# Altium footprint library WR-TBL_Pluggable Connector_5.00mm.PcbLib: 148 footprints (part 2 of 10)
Each footprint in its own frame and in the unit in brackets; x right, y up, seen from the top. Pads: shape width x height; smd on the part's side, far side on the other; paste and mask are expansions set on the pad; w line width, h text height; cw(c..) or ccw(c..) is an arc to the next point about the centre after c.
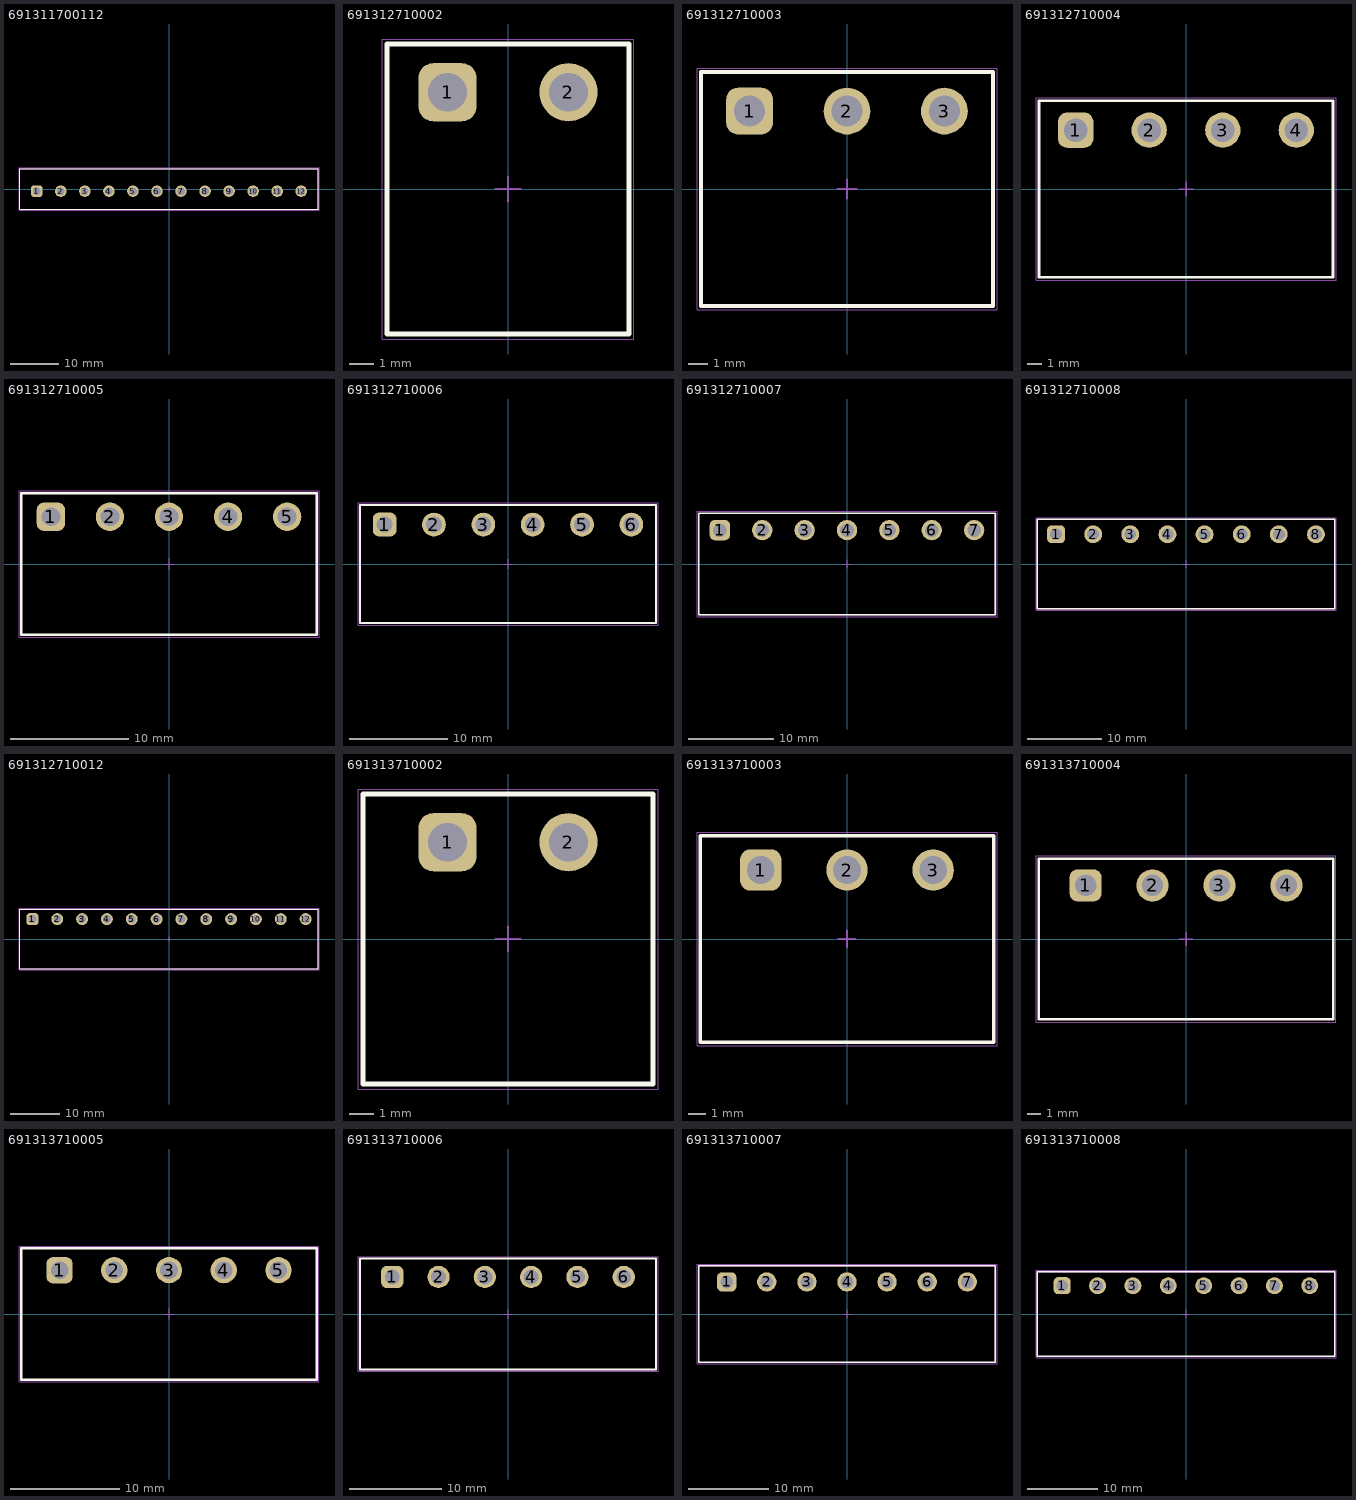
[diagram p1: the footprints below, top view; thin cyan lines are the x and y axes]

## 691311700112 [mm] "5.00mm - PCB Vertical Closed - 12p"
height 12
pads (12):
  rrect50% 2.4x2.4 hole 1.6: 1(-27.5,-0.45)
  round 2.4 hole 1.6: 2(-22.5,-0.45) 3(-17.5,-0.45) 4(-12.5,-0.45) 5(-7.5,-0.45) 6(-2.5,-0.45) 7(2.5,-0.45) 8(7.5,-0.45) 9(12.5,-0.45) 10(17.5,-0.45) 11(22.5,-0.45) 12(27.5,-0.45)
Top Overlay:
  lines w0.2: -31,-4.25 -31,4.25 31,4.25 31,-4.25 -31,-4.25
Top Assembly:
  lines w0.1: -31,-4.25 31,-4.25 31,4.25 -31,4.25 -31,-4.25
Top Designator:
  text ".Designator" at -3.647,-0.357 h1
Top 3D Body:
  lines w0.1: -31,-4.25 -31,4.25 31,4.25 31,-4.25 -31,-4.25
Top Courtyard:
  lines w0.05: -31.2,-4.45 31.2,-4.45 31.2,4.45 -31.2,4.45 -31.2,-4.45
Top Component Center:
  lines w0.1: -0.5,0 0.5,0 ; 0,-0.5 0,0.5
3D body "691311700112.stp": height 12.1, standoff -3.9, extent -31,-4.25 31,4.25

## 691312710002 [mm] "5.00mm - Open Horizhontal PCB Header - 02p"
height 8.5
pads (2):
  rrect50% 2.4x2.4 hole 1.6: 1(-2.5,4)
  round 2.4 hole 1.6: 2(2.5,4)
Top Overlay:
  lines w0.2: -5,-6 -5,6 5,6 5,-6 -5,-6
Top Assembly:
  lines w0.1: -5,-6 5,-6 5,6 -5,6 -5,-6
Top Designator:
  text ".Designator" at -3.647,-0.357 h1
Top 3D Body:
  lines w0.1: -5,-6 -5,6 5,6 5,-6 -5,-6
Top Courtyard:
  lines w0.05: -5.2,-6.2 -5.2,6.2 5.2,6.2 5.2,-6.2 -5.2,-6.2
Top Component Center:
  lines w0.1: -0.5,0 0.5,0 ; 0,-0.5 0,0.5
3D body "691312710002.stp": height 8.55, standoff -3.45, extent -5,-6 5,6

## 691312710003 [mm] "5.00mm - Open Horizhontal PCB Header - 03p"
height 8.5
pads (3):
  rrect50% 2.4x2.4 hole 1.6: 1(-5,4)
  round 2.4 hole 1.6: 2(0,4) 3(5,4)
Top Overlay:
  lines w0.2: -7.5,-6 -7.5,6 7.5,6 7.5,-6 -7.5,-6
Top Assembly:
  lines w0.1: -7.5,-6 7.5,-6 7.5,6 -7.5,6 -7.5,-6
Top Designator:
  text ".Designator" at -3.647,-0.357 h1
Top 3D Body:
  lines w0.1: -7.5,-6 -7.5,6 7.5,6 7.5,-6 -7.5,-6
Top Courtyard:
  lines w0.05: -7.7,-6.2 -7.7,6.2 7.7,6.2 7.7,-6.2 -7.7,-6.2
Top Component Center:
  lines w0.1: -0.5,0 0.5,0 ; 0,-0.5 0,0.5
3D body "691312710003.stp": height 8.55, standoff -3.45, extent -7.5,-6 7.5,6

## 691312710004 [mm] "5.00mm - Open Horizhontal PCB Header - 04p"
height 8.5
pads (4):
  rrect50% 2.4x2.4 hole 1.6: 1(-7.5,4)
  round 2.4 hole 1.6: 2(-2.5,4) 3(2.5,4) 4(7.5,4)
Top Overlay:
  lines w0.2: -10,-6 10,-6 10,6 -10,6 -10,-6
Top Assembly:
  lines w0.1: -10,-6 -10,6 10,6 10,-6 -10,-6
Top Designator:
  text ".Designator" at -3.647,-0.357 h1
Top 3D Body:
  lines w0.1: -10,-6 10,-6 10,6 -10,6 -10,-6
Top Courtyard:
  lines w0.05: -10.2,-6.2 10.2,-6.2 10.2,6.2 -10.2,6.2 -10.2,-6.2
Top Component Center:
  lines w0.1: -0.5,0 0.5,0 ; 0,-0.5 0,0.5
3D body "691312710004.stp": height 8.55, standoff -3.45, extent -10,-6 10,6

## 691312710005 [mm] "5.00mm - Open Horizhontal PCB Header - 05p"
height 8.5
pads (5):
  rrect50% 2.4x2.4 hole 1.6: 1(-10,4)
  round 2.4 hole 1.6: 2(-5,4) 3(0,4) 4(5,4) 5(10,4)
Top Overlay:
  lines w0.2: -12.5,-6 -12.5,6 12.5,6 12.5,-6 -12.5,-6
Top Assembly:
  lines w0.1: -12.5,-6 12.5,-6 12.5,6 -12.5,6 -12.5,-6
Top Designator:
  text ".Designator" at -3.647,-0.357 h1
Top 3D Body:
  lines w0.1: -12.5,-6 -12.5,6 12.5,6 12.5,-6 -12.5,-6
Top Courtyard:
  lines w0.05: -12.7,-6.2 -12.7,6.2 12.7,6.2 12.7,-6.2 -12.7,-6.2
Top Component Center:
  lines w0.1: -0.5,0 0.5,0 ; 0,-0.5 0,0.5
3D body "691312710005.stp": height 8.55, standoff -3.45, extent -12.5,-6 12.5,6

## 691312710006 [mm] "5.00mm - Open Horizhontal PCB Header - 06p"
height 8.5
pads (6):
  rrect50% 2.4x2.4 hole 1.6: 1(-12.5,4)
  round 2.4 hole 1.6: 2(-7.5,4) 3(-2.5,4) 4(2.5,4) 5(7.5,4) 6(12.5,4)
Top Overlay:
  lines w0.2: -15,-6 15,-6 15,6 -15,6 -15,-6
Top Assembly:
  lines w0.1: -15,-6 -15,6 15,6 15,-6 -15,-6
Top Designator:
  text ".Designator" at -3.647,-0.357 h1
Top 3D Body:
  lines w0.1: -15,-6 15,-6 15,6 -15,6 -15,-6
Top Courtyard:
  lines w0.05: -15.2,-6.2 15.2,-6.2 15.2,6.2 -15.2,6.2 -15.2,-6.2
Top Component Center:
  lines w0.1: -0.5,0 0.5,0 ; 0,-0.5 0,0.5
3D body "691312710006.stp": height 8.55, standoff -3.45, extent -15,-6 15,6

## 691312710007 [mm] "5.00mm - Open Horizhontal PCB Header - 07p"
height 8.5
pads (7):
  rrect50% 2.4x2.4 hole 1.6: 1(-15,4)
  round 2.4 hole 1.6: 2(-10,4) 3(-5,4) 4(0,4) 5(5,4) 6(10,4) 7(15,4)
Top Overlay:
  lines w0.2: -17.5,-6 17.5,-6 17.5,6 -17.5,6 -17.5,-6
Top Assembly:
  lines w0.1: -17.5,-6 -17.5,6 17.5,6 17.5,-6 -17.5,-6
Top Designator:
  text ".Designator" at -3.647,-0.357 h1
Top 3D Body:
  lines w0.1: -17.5,-6 17.5,-6 17.5,6 -17.5,6 -17.5,-6
Top Courtyard:
  lines w0.05: -17.7,-6.2 17.7,-6.2 17.7,6.2 -17.7,6.2 -17.7,-6.2
Top Component Center:
  lines w0.1: -0.5,0 0.5,0 ; 0,-0.5 0,0.5
3D body "691312710007.stp": height 8.55, standoff -3.45, extent -17.5,-6 17.5,6

## 691312710008 [mm] "5.00mm - Open Horizhontal PCB Header - 08p"
height 8.5
pads (8):
  rrect50% 2.4x2.4 hole 1.6: 1(-17.5,4)
  round 2.4 hole 1.6: 2(-12.5,4) 3(-7.5,4) 4(-2.5,4) 5(2.5,4) 6(7.5,4) 7(12.5,4) 8(17.5,4)
Top Overlay:
  lines w0.2: -20,-6 -20,6 20,6 20,-6 -20,-6
Top Assembly:
  lines w0.1: -20,-6 20,-6 20,6 -20,6 -20,-6
Top Designator:
  text ".Designator" at -3.647,-0.357 h1
Top 3D Body:
  lines w0.1: -20,-6 -20,6 20,6 20,-6 -20,-6
Top Courtyard:
  lines w0.05: -20.2,-6.2 -20.2,6.2 20.2,6.2 20.2,-6.2 -20.2,-6.2
Top Component Center:
  lines w0.1: -0.5,0 0.5,0 ; 0,-0.5 0,0.5
3D body "691312710008.stp": height 8.55, standoff -3.45, extent -20,-6 20,6

## 691312710012 [mm] "5.00mm - Open Horizhontal PCB Header - 12p"
height 8.5
pads (12):
  rrect50% 2.4x2.4 hole 1.6: 1(-27.5,4)
  round 2.4 hole 1.6: 2(-22.5,4) 3(-17.5,4) 4(-12.5,4) 5(-7.5,4) 6(-2.5,4) 7(2.5,4) 8(7.5,4) 9(12.5,4) 10(17.5,4) 11(22.5,4) 12(27.5,4)
Top Overlay:
  lines w0.2: -30,-6 -30,6 30,6 30,-6 -30,-6
Top Assembly:
  lines w0.1: -30,-6 30,-6 30,6 -30,6 -30,-6
Top Designator:
  text ".Designator" at -3.647,-0.357 h1
Top 3D Body:
  lines w0.1: -30,-6 -30,6 30,6 30,-6 -30,-6
Top Courtyard:
  lines w0.05: -30.2,-6.2 -30.2,6.2 30.2,6.2 30.2,-6.2 -30.2,-6.2
Top Component Center:
  lines w0.1: -0.5,0 0.5,0 ; 0,-0.5 0,0.5
3D body "691312710012.stp": height 8.55, standoff -3.45, extent -30,-6 30,6

## 691313710002 [mm] "5.00mm - Closed Horizhontal PCB Header - -02p"
height 8.5
pads (2):
  rrect50% 2.4x2.4 hole 1.6: 1(-2.5,4)
  round 2.4 hole 1.6: 2(2.5,4)
Top Overlay:
  lines w0.2: -6,-6 6,-6 6,6 -6,6 -6,-6
Top Assembly:
  lines w0.1: -6,-6 -6,6 6,6 6,-6 -6,-6
Top Designator:
  text ".Designator" at -3.647,-0.357 h1
Top 3D Body:
  lines w0.1: -6,-6 6,-6 6,6 -6,6 -6,-6
Top Courtyard:
  lines w0.05: -6.2,-6.2 -6.2,6.2 6.2,6.2 6.2,-6.2 -6.2,-6.2
Top Component Center:
  lines w0.1: -0.5,0 0.5,0 ; 0,-0.5 0,0.5
3D body "691313710002.stp": height 8.55, standoff -3.45, extent -6,-6 6,6

## 691313710003 [mm] "5.00mm - Closed Horizhontal PCB Header - -03p"
height 8.5
pads (3):
  rrect50% 2.4x2.4 hole 1.6: 1(-5,4)
  round 2.4 hole 1.6: 2(0,4) 3(5,4)
Top Overlay:
  lines w0.2: -8.5,-6 -8.5,6 8.5,6 8.5,-6 -8.5,-6
Top Assembly:
  lines w0.1: -8.5,-6 8.5,-6 8.5,6 -8.5,6 -8.5,-6
Top Designator:
  text ".Designator" at -3.647,-0.357 h1
Top 3D Body:
  lines w0.1: -8.5,-6 -8.5,6 8.5,6 8.5,-6 -8.5,-6
Top Courtyard:
  lines w0.05: -8.7,-6.2 8.7,-6.2 8.7,6.2 -8.7,6.2 -8.7,-6.2
Top Component Center:
  lines w0.1: -0.5,0 0.5,0 ; 0,-0.5 0,0.5
3D body "691313710003.stp": height 8.55, standoff -3.45, extent -8.5,-6 8.5,6

## 691313710004 [mm] "5.00mm - Closed Horizhontal PCB Header - -04p"
height 8.5
pads (4):
  rrect50% 2.4x2.4 hole 1.6: 1(-7.5,4)
  round 2.4 hole 1.6: 2(-2.5,4) 3(2.5,4) 4(7.5,4)
Top Overlay:
  lines w0.2: -11,-6 11,-6 11,6 -11,6 -11,-6
Top Assembly:
  lines w0.1: -11,-6 -11,6 11,6 11,-6 -11,-6
Top Designator:
  text ".Designator" at -3.647,-0.357 h1
Top 3D Body:
  lines w0.1: -11,-6 11,-6 11,6 -11,6 -11,-6
Top Courtyard:
  lines w0.05: -11.2,-6.2 -11.2,6.2 11.2,6.2 11.2,-6.2 -11.2,-6.2
Top Component Center:
  lines w0.1: -0.5,0 0.5,0 ; 0,-0.5 0,0.5
3D body "691313710004.stp": height 8.55, standoff -3.45, extent -11,-6 11,6

## 691313710005 [mm] "5.00mm - Closed Horizhontal PCB Header - -05p"
height 8.5
pads (5):
  rrect50% 2.4x2.4 hole 1.6: 1(-10,4)
  round 2.4 hole 1.6: 2(-5,4) 3(0,4) 4(5,4) 5(10,4)
Top Overlay:
  lines w0.2: -13.5,-6 -13.5,6 13.5,6 13.5,-6 -13.5,-6
Top Assembly:
  lines w0.1: -13.5,-6 13.5,-6 13.5,6 -13.5,6 -13.5,-6
Top Designator:
  text ".Designator" at -3.647,-0.357 h1
Top 3D Body:
  lines w0.1: -13.5,-6 -13.5,6 13.5,6 13.5,-6 -13.5,-6
Top Courtyard:
  lines w0.05: -13.7,-6.2 13.7,-6.2 13.7,6.2 -13.7,6.2 -13.7,-6.2
Top Component Center:
  lines w0.1: -0.5,0 0.5,0 ; 0,-0.5 0,0.5
3D body "691313710005.stp": height 8.55, standoff -3.45, extent -13.5,-6 13.5,6

## 691313710006 [mm] "5.00mm - Closed Horizhontal PCB Header - -06p"
height 8.5
pads (6):
  rrect50% 2.4x2.4 hole 1.6: 1(-12.5,4)
  round 2.4 hole 1.6: 2(-7.5,4) 3(-2.5,4) 4(2.5,4) 5(7.5,4) 6(12.5,4)
Top Overlay:
  lines w0.2: -16,-6 16,-6 16,6 -16,6 -16,-6
Top Assembly:
  lines w0.1: -16,-6 -16,6 16,6 16,-6 -16,-6
Top Designator:
  text ".Designator" at -3.647,-0.357 h1
Top 3D Body:
  lines w0.1: -16,-6 16,-6 16,6 -16,6 -16,-6
Top Courtyard:
  lines w0.05: -16.2,-6.2 -16.2,6.2 16.2,6.2 16.2,-6.2 -16.2,-6.2
Top Component Center:
  lines w0.1: -0.5,0 0.5,0 ; 0,-0.5 0,0.5
3D body "691313710006.stp": height 8.55, standoff -3.45, extent -16,-6 16,6

## 691313710007 [mm] "5.00mm - Closed Horizhontal PCB Header - -07p"
height 8.5
pads (7):
  rrect50% 2.4x2.4 hole 1.6: 1(-15,4)
  round 2.4 hole 1.6: 2(-10,4) 3(-5,4) 4(0,4) 5(5,4) 6(10,4) 7(15,4)
Top Overlay:
  lines w0.2: -18.5,-6 -18.5,6 18.5,6 18.5,-6 -18.5,-6
Top Assembly:
  lines w0.1: -18.5,-6 18.5,-6 18.5,6 -18.5,6 -18.5,-6
Top Designator:
  text ".Designator" at -3.647,-0.357 h1
Top 3D Body:
  lines w0.1: -18.5,-6 -18.5,6 18.5,6 18.5,-6 -18.5,-6
Top Courtyard:
  lines w0.05: -18.7,-6.2 18.7,-6.2 18.7,6.2 -18.7,6.2 -18.7,-6.2
Top Component Center:
  lines w0.1: -0.5,0 0.5,0 ; 0,-0.5 0,0.5
3D body "691313710007.stp": height 8.55, standoff -3.45, extent -18.5,-6 18.5,6

## 691313710008 [mm] "5.00mm - Closed Horizhontal PCB Header - -08p"
height 8.5
pads (8):
  rrect50% 2.4x2.4 hole 1.6: 1(-17.5,4)
  round 2.4 hole 1.6: 2(-12.5,4) 3(-7.5,4) 4(-2.5,4) 5(2.5,4) 6(7.5,4) 7(12.5,4) 8(17.5,4)
Top Overlay:
  lines w0.2: -21,-6 -21,6 21,6 21,-6 -21,-6
Top Assembly:
  lines w0.1: -21,-6 21,-6 21,6 -21,6 -21,-6
Top Designator:
  text ".Designator" at -3.647,-0.357 h1
Top 3D Body:
  lines w0.1: -21,-6 -21,6 21,6 21,-6 -21,-6
Top Courtyard:
  lines w0.05: -21.2,-6.2 21.2,-6.2 21.2,6.2 -21.2,6.2 -21.2,-6.2
Top Component Center:
  lines w0.1: -0.5,0 0.5,0 ; 0,-0.5 0,0.5
3D body "691313710008.stp": height 8.55, standoff -3.45, extent -21,-6 21,6